# EAGLE library part TPS92512 (library my_ic)
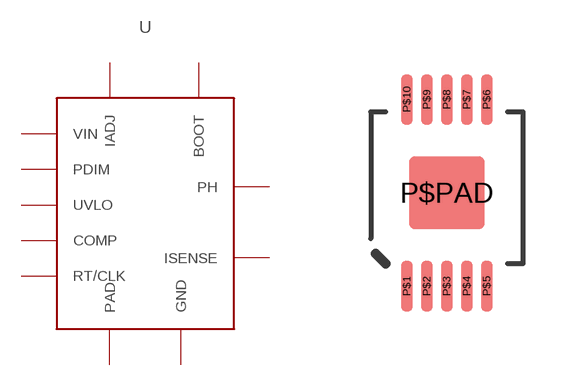
[diagram p17: symbol with the pads of POWERPAD-10; footprint POWERPAD-10]

Designator prefix -

## TPS92512  [POWERPAD-10]
P$1  BOOT  out
P$2  VIN  pwr
P$3  UVLO  in
P$4  PDIM  in
P$5  RT/CLK  in
P$6  IADJ  in
P$7  ISENSE  in
P$8  COMP  out
P$9  GND  pwr
P$10  PH  out
P$PAD  PAD  pwr

## Footprint POWERPAD-10 (pad centres in mm)
smd 0.28 x 1.27: P$1 -1,-2.337; P$2 -0.5,-2.337; P$3 0,-2.337; P$4 0.5,-2.337; P$5 1,-2.337; P$6 1,2.337; P$7 0.5,2.337; P$8 0,2.337; P$9 -0.5,2.337; P$10 -1,2.337
smd 1.89 x 1.83: P$PAD 0,0